# Altium schematic symbol library OpAmps.SchLib: 2 symbols
Pins are listed as number, name and electrical type; pins without a type are passive.

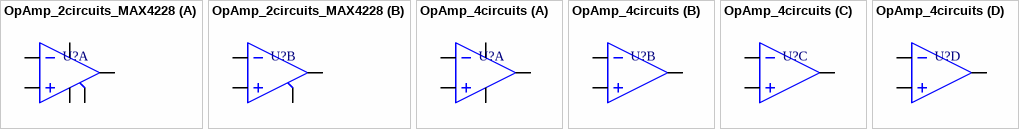
[diagram p0: symbols OpAmp_2circuits_MAX4228 to OpAmp_4circuits]

## OpAmp_2circuits_MAX4228
designator U?  (value not drawn)
part A pins: 1 1OUT, 2 1IN-, 3 1IN+, 4 V-, 6 SHDNA, 14 V+
part B pins: 9 SHDNB, 11 2IN+, 12 2IN-, 13 2OUT

## OpAmp_4circuits
designator U?  (value not drawn)
part A pins: 1 1OUT, 2 1IN-, 3 1IN+, 4 V+, 11 V-
part B pins: 5 2IN+, 6 2IN-, 7 2OUT
part C pins: 8 3OUT, 9 3IN-, 10 3IN+
part D pins: 12 4IN+, 13 4IN-, 14 4OUT